# EAGLE library part LM75BD (library KVB-ICs)
Temperature Sensor Digital, Local -55°C ~ 125°C 11 b 8-SO
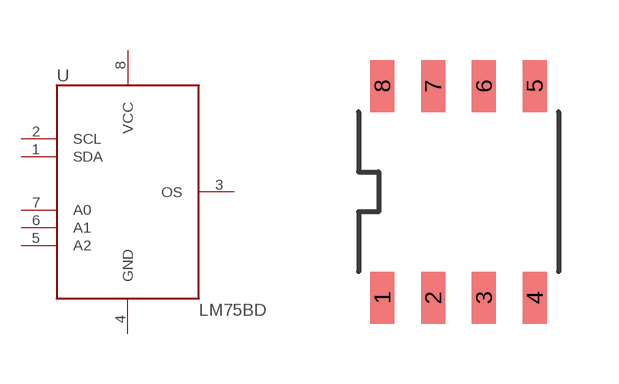
[diagram p12: symbol with the pads of LM75BD; footprint LM75BD]

Designator prefix U

## LM75BD (MAN-PART_NUM: LM75BD; MANUFACTURER: NXP USA Inc)  [LM75BD]
1  SDA
2  SCL
3  OS
4  GND
5  A2
6  A1
7  A0
8  VCC

## Footprint LM75BD (pad centres in mm)
smd 0.6 x 1.3: 1 -1.905,-2.65; 2 -0.635,-2.65; 3 0.635,-2.65; 4 1.905,-2.65; 5 1.905,2.65; 6 0.635,2.65; 7 -0.635,2.65; 8 -1.905,2.65